# EAGLE library part CD54HC107 (library dawidkulpa_dev)
Double JK flip-flop
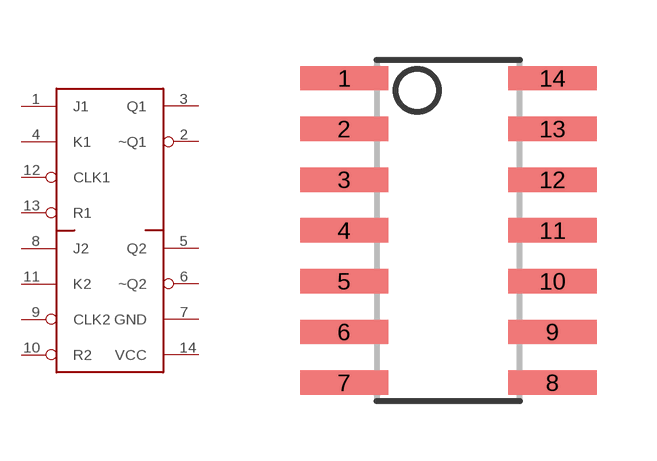
[diagram p1: symbol with the pads of SO14; footprint SO14]

Designator prefix -

## CD54HC107  [SO14]
1  J1
2  ~Q1
3  Q1
4  K1
5  Q2
6  ~Q2
7  GND
8  J2
9  CLK2
10  R2
11  K2
12  CLK1
13  R1
14  VCC

## Footprint SO14 (pad centres in mm)
Small Outline Package
smd 2.21 x 0.61: 1 -2.603,3.81; 2 -2.603,2.54; 3 -2.603,1.27; 4 -2.603,0; 5 -2.603,-1.27; 6 -2.603,-2.54; 7 -2.603,-3.81; 8 2.603,-3.81; 9 2.603,-2.54; 10 2.603,-1.27; 11 2.603,0; 12 2.603,1.27; 13 2.603,2.54; 14 2.603,3.81